# Altium schematic symbol library PowerIndcutor_IHLP2525CZER1R0M01.SchLib: 1 symbol
Pins are listed as number, name and electrical type; pins without a type are passive.

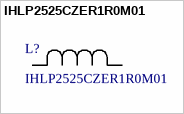
[diagram p0: symbol IHLP2525CZER1R0M01]

## IHLP2525CZER1R0M01
designator L?
IHLP-2525CZ-01 1 20% ER E3; Manufacturer_Name: Vishay; Copyright: Copyright (C) 2025 Ultra Librarian. All rights reserved.; Manufacturer_Part_Number: IHLP2525CZER1R0M01
footprint IND_IHLP-2525CZ-01_VIS
pins: 1, 2